# Altium footprint library SnapEDApcb.PcbLib: 1 footprints
Each footprint in its own frame and in the unit in brackets; x right, y up, seen from the top. Pads: shape width x height; smd on the part's side, far side on the other; paste and mask are expansions set on the pad; w line width, h text height; cw(c..) or ccw(c..) is an arc to the next point about the centre after c.
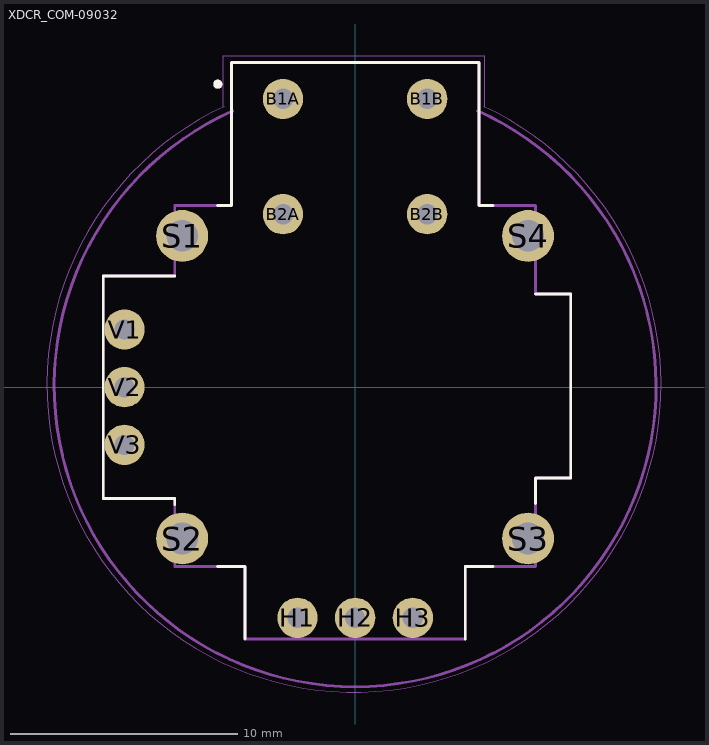
[diagram p0: the footprint, top view; thin cyan lines are the x and y axes]

## XDCR_COM-09032 [mil]
pads (14):
  round 70 hole 35.43: B1A(-125,500) B1B(125,500) B2A(-125,300) B2B(125,300)
  round 70 hole 35: H1(-100,-400) H2(0,-400) H3(100,-400) V1(-400,100) V2(-400,0) V3(-400,-100)
  round 90 hole 55: S1(-300,262.5) S2(-300,-262.5) S3(300,-262.5) S4(300,262.5)
Top Overlay:
  circle w7.87: c-238.19,525.59 r3.94
  lines w5: -312.99,-203.54 -312.99,-192.91 -437.01,-192.91 -437.01,192.91 -312.99,192.91 ; -238.98,-311.02 -190.94,-311.02 -190.94,-437.01 ; -238.98,314.96 -214.57,314.96 -214.57,562.99 214.57,562.99 214.57,314.96 239.37,314.96 ; 190.94,-437.01 190.94,-311.02 239.37,-311.02 ; 312.99,-201.57 312.99,-157.48 374.02,-157.48 374.02,161.42 312.99,161.42
Mechanical 13:
  circle w7.87: c-238.19,525.59 r3.94
  lines w5: -212.33,479.35 ccw(c0,2.45) 212.33,479.35 ; -437.01,-192.91 -437.01,192.91 -312.99,192.91 -312.99,314.96 -214.57,314.96 -214.57,562.99 214.57,562.99 214.57,314.96 312.99,314.96 312.99,161.42 374.02,161.42 374.02,-157.48 312.99,-157.48 312.99,-311.02 190.94,-311.02 190.94,-437.01 -190.94,-437.01 -190.94,-311.02 -312.99,-311.02 -312.99,-192.91 -437.01,-192.91
Mechanical 15:
  lines w1.97: -228.35,486.22 -228.35,574.8 224.41,574.8 224.41,486.22 ; -227.17,486.77 ccw(c-1.97,3.83) 223.23,486.77